# Altium footprint library usomiq-base.PcbLib: 31 footprints (part 2 of 2)
Each footprint in its own frame and in the unit in brackets; x right, y up, seen from the top. Pads: shape width x height; smd on the part's side, far side on the other; paste and mask are expansions set on the pad; w line width, h text height; cw(c..) or ccw(c..) is an arc to the next point about the centre after c.
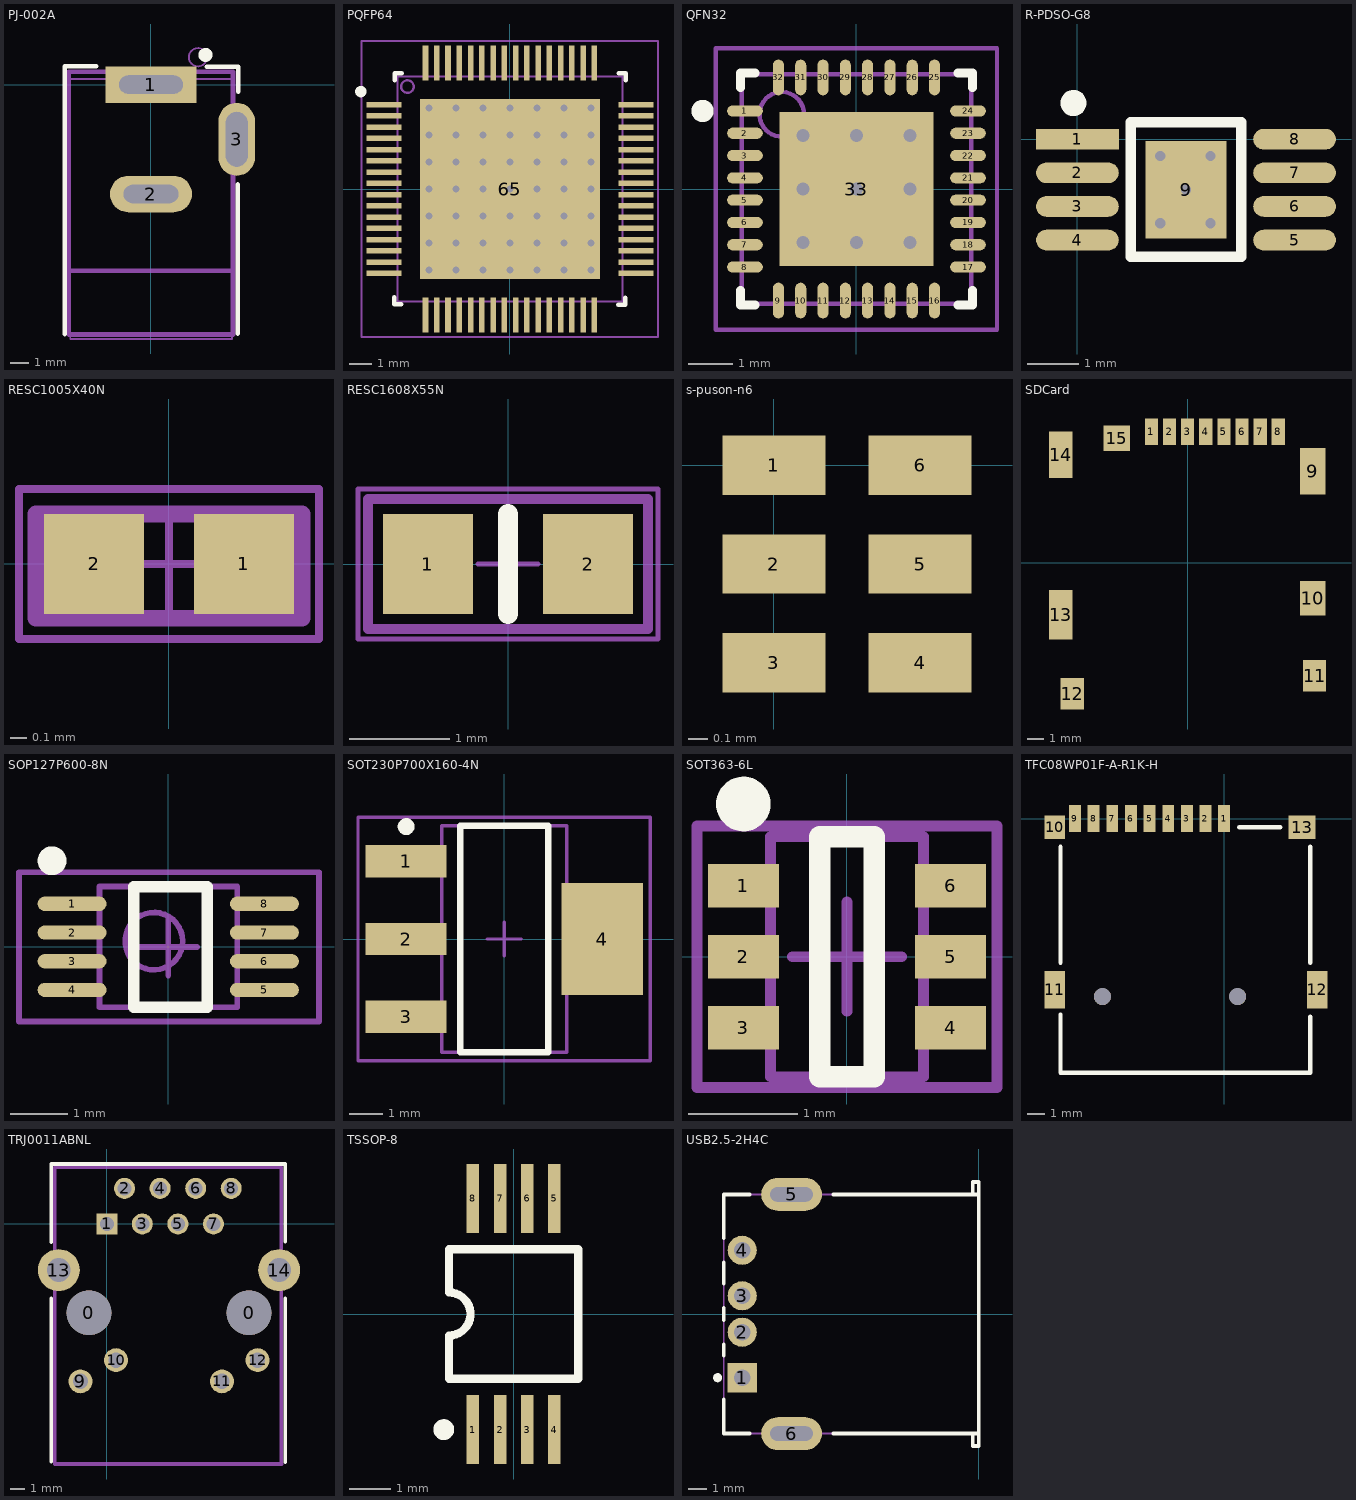
[diagram p1: the footprints below, top view; thin cyan lines are the x and y axes]

## PJ-002A [mm] "DC POWER JACK"
height 11
pads (3):
  rect 5x2 hole 1 slot 3.5 at 0 deg: 1(0,0)
  oval 4.5x2 hole 1 slot 3 at 0 deg: 2(0,-6)
  oval 2x4 hole 1.2 slot 3 at 90 deg: 3(4.7,-3)
Top Overlay:
  circle w0.4: c2.985,1.625 r0.185
  lines w0.254: -4.725,-13.675 -4.725,1 -3,1 ; 3.05,0.975 4.775,0.975 4.775,-0.4 ; 4.75,-13.645 4.75,-5.475
Mechanical 13:
  circle w0.1: c2.575,1.5 r0.5
  lines w0.1: -4.425,-13.95 -4.425,0.3 4.45,0.3 4.45,-13.95 -4.425,-13.95
Mechanical 15:
  lines w0.254: -4.5,-10.2 4.5,-10.2 ; -4.5,-13.7 4.5,-13.7 4.5,0.7 -4.5,0.7 -4.5,-13.7
3D body: height 11, standoff -3.78, extent -4.373,-13.589 4.927,0.411

## PQFP64 [mm] "64-Pin Quad Flat Pad 0.5 mm Pitch, IPC Low Density"
height 1
pads (65):
  rect 1.55x0.25 smd: 1(-5.6,3.75) 2(-5.6,3.25) 3(-5.6,2.75) 4(-5.6,2.25) 5(-5.6,1.75) 6(-5.6,1.25) 7(-5.6,0.75) 8(-5.6,0.25) 9(-5.6,-0.25) 10(-5.6,-0.75) 11(-5.6,-1.25) 12(-5.6,-1.75) 13(-5.6,-2.25) 14(-5.6,-2.75) 15(-5.6,-3.25) 16(-5.6,-3.75) 33(5.6,-3.75) 34(5.6,-3.25) 35(5.6,-2.75) 36(5.6,-2.25) 37(5.6,-1.75) 38(5.6,-1.25) 39(5.6,-0.75) 40(5.6,-0.25) 41(5.6,0.25) 42(5.6,0.75) 43(5.6,1.25) 44(5.6,1.75) 45(5.6,2.25) 46(5.6,2.75) 47(5.6,3.25) 48(5.6,3.75)
  rect 0.25x1.55 smd: 17(-3.75,-5.6) 18(-3.25,-5.6) 19(-2.75,-5.6) 20(-2.25,-5.6) 21(-1.75,-5.6) 22(-1.25,-5.6) 23(-0.75,-5.6) 24(-0.25,-5.6) 25(0.25,-5.6) 26(0.75,-5.6) 27(1.25,-5.6) 28(1.75,-5.6) 29(2.25,-5.6) 30(2.75,-5.6) 31(3.25,-5.6) 32(3.75,-5.6) 49(3.75,5.6) 50(3.25,5.6) 51(2.75,5.6) 52(2.25,5.6) 53(1.75,5.6) 54(1.25,5.6) 55(0.75,5.6) 56(0.25,5.6) 57(-0.25,5.6) 58(-0.75,5.6) 59(-1.25,5.6) 60(-1.75,5.6) 61(-2.25,5.6) 62(-2.75,5.6) 63(-3.25,5.6) 64(-3.75,5.6)
  rect 8x8 smd: 65(0,0)
via -3.6,-2.4 diameter 0.8 hole 0.3
via -3.6,-1.2 diameter 0.8 hole 0.3
via -3.6,0 diameter 0.8 hole 0.3
via -3.6,1.2 diameter 0.8 hole 0.3
via -3.6,2.4 diameter 0.8 hole 0.3
via -3.6,3.6 diameter 0.8 hole 0.3
via -3.6,-3.6 diameter 0.8 hole 0.3
via 3.6,-2.4 diameter 0.8 hole 0.3
via 3.6,-1.2 diameter 0.8 hole 0.3
via 3.6,0 diameter 0.8 hole 0.3
via 3.6,1.2 diameter 0.8 hole 0.3
via 3.6,2.4 diameter 0.8 hole 0.3
via 3.6,3.6 diameter 0.8 hole 0.3
via 3.6,-3.6 diameter 0.8 hole 0.3
via 2.4,-3.6 diameter 0.8 hole 0.3
via 1.2,-3.6 diameter 0.8 hole 0.3
via 0,-3.6 diameter 0.8 hole 0.3
via -1.2,-3.6 diameter 0.8 hole 0.3
via -2.4,-3.6 diameter 0.8 hole 0.3
via 2.4,3.6 diameter 0.8 hole 0.3
via 1.2,3.6 diameter 0.8 hole 0.3
via 0,3.6 diameter 0.8 hole 0.3
via -1.2,3.6 diameter 0.8 hole 0.3
via -2.4,3.6 diameter 0.8 hole 0.3
via -2.4,2.4 diameter 0.8 hole 0.3
via -1.2,2.4 diameter 0.8 hole 0.3
via 0,2.4 diameter 0.8 hole 0.3
via 1.2,2.4 diameter 0.8 hole 0.3
via 2.4,2.4 diameter 0.8 hole 0.3
via -2.4,1.2 diameter 0.8 hole 0.3
via -1.2,1.2 diameter 0.8 hole 0.3
via 0,1.2 diameter 0.8 hole 0.3
via 1.2,1.2 diameter 0.8 hole 0.3
via 2.4,1.2 diameter 0.8 hole 0.3
via -2.4,0 diameter 0.8 hole 0.3
via -1.2,0 diameter 0.8 hole 0.3
via 0,0 diameter 0.8 hole 0.3
via 1.2,0 diameter 0.8 hole 0.3
via 2.4,0 diameter 0.8 hole 0.3
via -2.4,-1.2 diameter 0.8 hole 0.3
via -1.2,-1.2 diameter 0.8 hole 0.3
via 0,-1.2 diameter 0.8 hole 0.3
via 1.2,-1.2 diameter 0.8 hole 0.3
via 2.4,-1.2 diameter 0.8 hole 0.3
via -2.4,-2.4 diameter 0.8 hole 0.3
via -1.2,-2.4 diameter 0.8 hole 0.3
via 0,-2.4 diameter 0.8 hole 0.3
via 1.2,-2.4 diameter 0.8 hole 0.3
via 2.4,-2.4 diameter 0.8 hole 0.3
Top Overlay:
  circle w0.25: c-6.625,4.325 r0.125
  lines w0.2: -5.15,-4.8 -5.15,-5.125 -4.825,-5.125 ; -5.125,4.825 -5.125,5.15 -4.8,5.15 ; 4.8,-5.15 5.125,-5.15 5.125,-4.825 ; 4.825,5.15 5.15,5.15 5.15,4.825
Bottom Solder:
  circle w0.6: c3.6,-3.6 r0.15
  circle w0.6: c3.6,-2.4 r0.15
  circle w0.6: c3.6,-1.2 r0.15
  circle w0.6: c3.6,0 r0.15
  circle w0.6: c3.6,1.2 r0.15
  circle w0.6: c3.6,2.4 r0.15
  circle w0.6: c3.6,3.6 r0.15
  circle w0.6: c2.4,2.4 r0.15
  circle w0.6: c2.4,3.6 r0.15
  circle w0.6: c2.4,1.2 r0.15
  circle w0.6: c2.4,0 r0.15
  circle w0.6: c2.4,-1.2 r0.15
  circle w0.6: c2.4,-2.4 r0.15
  circle w0.6: c2.4,-3.6 r0.15
  circle w0.6: c1.2,-3.6 r0.15
  circle w0.6: c1.2,-2.4 r0.15
  circle w0.6: c1.2,-1.2 r0.15
  circle w0.6: c1.2,0 r0.15
  circle w0.6: c1.2,1.2 r0.15
  circle w0.6: c1.2,2.4 r0.15
  circle w0.6: c1.2,3.6 r0.15
  circle w0.6: c0,3.6 r0.15
  circle w0.6: c0,2.4 r0.15
  circle w0.6: c0,1.2 r0.15
  circle w0.6: c0,0 r0.15
  circle w0.6: c0,-1.2 r0.15
  circle w0.6: c0,-2.4 r0.15
  circle w0.6: c0,-3.6 r0.15
  circle w0.6: c-1.2,-3.6 r0.15
  circle w0.6: c-1.2,-2.4 r0.15
  circle w0.6: c-1.2,-1.2 r0.15
  circle w0.6: c-1.2,0 r0.15
  circle w0.6: c-1.2,1.2 r0.15
  circle w0.6: c-1.2,2.4 r0.15
  circle w0.6: c-1.2,3.6 r0.15
  circle w0.6: c-2.4,3.6 r0.15
  circle w0.6: c-2.4,2.4 r0.15
  circle w0.6: c-2.4,1.2 r0.15
  circle w0.6: c-2.4,0 r0.15
  circle w0.6: c-2.4,-1.2 r0.15
  circle w0.6: c-2.4,-2.4 r0.15
  circle w0.6: c-2.4,-3.6 r0.15
  circle w0.6: c-3.6,-3.6 r0.15
  circle w0.6: c-3.6,-2.4 r0.15
  circle w0.6: c-3.6,-1.2 r0.15
  circle w0.6: c-3.6,0 r0.15
  circle w0.6: c-3.6,1.2 r0.15
  circle w0.6: c-3.6,2.4 r0.15
  circle w0.6: c-3.6,3.6 r0.15
Mechanical 13:
  circle w0.1: c-4.555,4.55 r0.28
  lines w0.1: -5,-5 -5,5 5,5 5,-5 -5,-5
Mechanical 15:
  lines w0.1: -0.5,0 0.5,0 ; 0,-0.5 0,0.5 ; -6.6,-6.575 -6.6,6.575 6.575,6.575 6.575,-6.575 -6.6,-6.575
3D body: height 1, standoff 0, extent -5.787,-5.79 5.787,5.791

## QFN32 [mm] "32-Pin Quad Flat No-Lead 0.5 mm Pitch, IPC Medium Density"
height 1
pads (33):
  oval 0.8x0.25 smd: 1(-2.5,1.75) 2(-2.5,1.25) 3(-2.5,0.75) 4(-2.5,0.25) 5(-2.5,-0.25) 6(-2.5,-0.75) 7(-2.5,-1.25) 8(-2.5,-1.75) 17(2.5,-1.75) 18(2.5,-1.25) 19(2.5,-0.75) 20(2.5,-0.25) 21(2.5,0.25) 22(2.5,0.75) 23(2.5,1.25) 24(2.5,1.75)
  oval 0.25x0.8 smd: 9(-1.75,-2.5) 10(-1.25,-2.5) 11(-0.75,-2.5) 12(-0.25,-2.5) 13(0.25,-2.5) 14(0.75,-2.5) 15(1.25,-2.5) 16(1.75,-2.5) 25(1.75,2.5) 26(1.25,2.5) 27(0.75,2.5) 28(0.25,2.5) 29(-0.25,2.5) 30(-0.75,2.5) 31(-1.25,2.5) 32(-1.75,2.5)
  rect 3.45x3.45 smd: 33(0,0)
via 1.2,-1.2 diameter 0.6 hole 0.3
via 0,-1.2 diameter 0.6 hole 0.3
via -1.2,-1.2 diameter 0.6 hole 0.3
via 1.2,0 diameter 0.6 hole 0.3
via 0,0 diameter 0.6 hole 0.3
via -1.2,0 diameter 0.6 hole 0.3
via 1.2,1.2 diameter 0.6 hole 0.3
via 0,1.2 diameter 0.6 hole 0.3
via -1.2,1.2 diameter 0.6 hole 0.3
Top Overlay:
  circle w0.25: c-3.45,1.75 r0.125
  lines w0.2: -2.6,-2.275 -2.6,-2.6 -2.275,-2.6 ; -2.6,2.275 -2.6,2.6 -2.275,2.6 ; 2.275,-2.6 2.6,-2.6 2.6,-2.275 ; 2.275,2.6 2.6,2.6 2.6,2.275
Bottom Solder:
  circle w0.4: c1.2,-1.2 r0.15
  circle w0.4: c1.2,0 r0.15
  circle w0.4: c1.2,1.2 r0.15
  circle w0.4: c0,1.2 r0.15
  circle w0.4: c0,0 r0.15
  circle w0.4: c0,-1.2 r0.15
  circle w0.4: c-1.2,-1.2 r0.15
  circle w0.4: c-1.2,0 r0.15
  circle w0.4: c-1.2,1.2 r0.15
Mechanical 13:
  circle w0.1: c-1.675,1.675 r0.5
  lines w0.1: -2.575,-2.575 2.575,-2.575 2.575,2.575 -2.575,2.575 -2.575,-2.575
Mechanical 15:
  lines w0.1: -0.5,0 0.5,0 ; 0,-0.5 0,0.5 ; -3.15,-3.15 3.15,-3.15 3.15,3.15 -3.15,3.15 -3.15,-3.15
3D body: height 0.8, standoff 0, extent -2.51,-2.51 2.51,2.51

## R-PDSO-G8 [mm]
pads (9):
  rect 1.6x0.4 smd: 1(0,0)
  oval 1.6x0.4 smd: 2(0,-0.65) 3(0,-1.3) 4(0,-1.95) 5(4.2,-1.95) 6(4.2,-1.3) 7(4.2,-0.65) 8(4.2,0)
  rect 1.57x1.89 smd: 9(2.1,-0.975)
via 2.575,-1.625 diameter 0.4 hole 0.2
via 1.6,-1.625 diameter 0.4 hole 0.2
via 1.6,-0.325 diameter 0.4 hole 0.2
via 2.575,-0.325 diameter 0.4 hole 0.2
via 2.1,-0.975 diameter 0.4 hole 0.2
Top Overlay:
  circle w0.254: c-0.075,0.7 r0.125
  lines w0.2: 3.15,0.325 1.035,0.325 1.035,-2.275 3.165,-2.275 3.165,0.325
3D body: height 1.1, standoff 0.1, extent 0.45,-2.75 3.725,0.8

## RESC1005X40N [mm] "Chip Resistor, EIA 0402, Metric 1005, Body 1.0x0.5mm, IPC Medium Density"
height 0.4
pads (2):
  rect 0.6x0.6 smd: 1(0.45,0) 2(-0.45,0)
Mechanical 2:
  lines w0.05: -0.9,-0.45 -0.9,0.45 0.9,0.45 0.9,-0.45 -0.9,-0.45
  text ".designator" at -0.75,-0.25 h0.5
Mechanical 14:
  lines w0.1: -0.8,-0.325 -0.8,0.3 0.8,0.3 0.8,-0.325 -0.8,-0.325
Mechanical 15:
  lines w0.05: -0.3,0 0.3,0 ; 0,-0.3 0,0.3 ; -0.9,-0.45 -0.9,0.45 0.9,0.45 0.9,-0.45 -0.9,-0.45
3D body: height 0.4, standoff 0, extent -0.525,-0.275 0.525,0.275

## RESC1608X55N [mm] "Chip Resistor, EIA 0603, Metric 1608, Body 1.6x0.8mm, IPC Medium Density"
height 0.55
pads (2):
  rect 0.9x1 smd: 1(-0.8,0) 2(0.8,0)
Top Overlay:
  lines w0.2: 0,-0.5 0,0.5
Mechanical 2:
  lines w0.05: -1.5,-0.75 -1.5,0.75 1.5,0.75 1.5,-0.75 -1.5,-0.75
  text ".designator" at -1.225,-0.1 h0.5
Mechanical 14:
  lines w0.1: -1.4,-0.65 1.4,-0.65 1.4,0.65 -1.4,0.65 -1.4,-0.65
Mechanical 15:
  lines w0.05: -0.3,0 0.3,0 ; 0,-0.3 0,0.3 ; -1.5,-0.75 -1.5,0.75 1.5,0.75 1.5,-0.75 -1.5,-0.75
3D body: height 0.55, standoff 0, extent -0.875,-0.475 0.875,0.475

## s-puson-n6 [mm]
pads (6):
  rect 0.52x0.3 smd mask+0.05: 1(0,0) 2(0,-0.5) 3(0,-1) 4(0.74,-1) 5(0.74,-0.5) 6(0.74,0)
3D body: height 0.6, standoff 0, extent -0.254,-1.143 1.016,0.127

## SDCard [mm] "molex 0492250821"
pads (15):
  rect 0.8x1.6 smd: 1(-2.2,7.95) 2(-1.1,7.95) 3(0,7.95) 4(1.1,7.95) 5(2.2,7.95) 6(3.3,7.95) 7(4.4,7.95) 8(5.5,7.95)
  rect 1.55x2.8 smd: 9(7.6,5.55)
  rect 1.55x2.1 smd: 10(7.6,-2.15)
  rect 1.4x1.9 smd: 11(7.7,-6.85) 12(-7,-7.95)
  rect 1.4x3 smd: 13(-7.7,-3.15)
  rect 1.4x2.8 smd: 14(-7.7,6.55)
  rect 1.6x1.55 smd: 15(-4.3,7.55)
3D body: height 1.95, standoff -0.03, extent -8.05,-8.5 8.05,8.55

## SOP127P600-8N [mm]
height 0.9
pads (8):
  oval 1.2x0.25 smd mask+0.05: 1(-1.675,0.75) 2(-1.675,0.25) 3(-1.675,-0.25) 4(-1.675,-0.75) 5(1.675,-0.75) 6(1.675,-0.25) 7(1.675,0.25) 8(1.675,0.75)
Top Overlay:
  circle w0.25: c-2.025,1.5 r0.125
  lines w0.2: -0.6,-1.05 0.675,-1.05 0.675,1.05 -0.6,1.05 -0.6,-1.05
Mechanical 13:
  circle w0.1: c-0.25,0.1 r0.5
  lines w0.1: -1.2,-1.05 1.2,-1.05 1.2,1.05 -1.2,1.05 -1.2,-1.05
Mechanical 15:
  lines w0.1: -0.5,0 0.5,0 ; 0,-0.5 0,0.5 ; -2.6,-1.3 2.625,-1.3 2.625,1.3 -2.6,1.3 -2.6,-1.3
3D body: height 0.9, standoff 0.1, extent -1.2,-1.05 1.2,1.05
3D body: height 0.9, standoff 0, extent -1.554,-1 1.554,1

## SOT230P700X160-4N [mm] "SOT223, 4-Leads, Body 6,7x7,3mm (max), Pitch 2,30mm, IPC Medium Density"
height 1.6
pads (4):
  rect 2.4x0.95 smd: 1(-2.9,2.3) 2(-2.9,0) 3(-2.9,-2.3)
  rect 2.4x3.3 smd: 4(2.9,0)
Top Overlay:
  circle w0.25: c-2.9,3.325 r0.125
  lines w0.2: -1.3,-3.35 1.3,-3.35 1.3,3.35 -1.3,3.35 -1.3,-3.35
Mechanical 13:
  lines w0.1: -1.85,-3.35 1.85,-3.35 1.85,3.35 -1.85,3.35 -1.85,-3.35
Mechanical 15:
  lines w0.1: -0.5,0 0.5,0 ; 0,-0.5 0,0.5 ; -4.325,-3.6 4.325,-3.6 4.325,3.6 -4.325,3.6 -4.325,-3.6
3D body: height 1.6, standoff 0.02, extent -1.85,-3.35 1.85,3.35
3D body: height 1.7, standoff 0.02, extent -3.48,-3.25 3.48,3.25

## SOT363-6L [mm] "SOT363, 6-Leads, Body 2x1.3mm, Pitch 0.65mm, Lead Span 2.1mm, IPC High Density"
height 1
pads (6):
  rect 0.65x0.4 smd: 1(-0.95,0.65) 2(-0.95,0) 3(-0.95,-0.65) 4(0.95,-0.65) 5(0.95,0) 6(0.95,0.65)
Top Overlay:
  circle w0.25: c-0.95,1.4 r0.125
  lines w0.2: -0.25,-1.1 -0.25,1.1 0.25,1.1 0.25,-1.1 -0.25,-1.1
Mechanical 13:
  lines w0.1: -0.7,-1.1 0.7,-1.1 0.7,1.1 -0.7,1.1 -0.7,-1.1
Mechanical 15:
  lines w0.1: -0.5,0 0.5,0 ; 0,-0.5 0,0.5 ; -1.375,-1.2 1.375,-1.2 1.375,1.2 -1.375,1.2 -1.375,-1.2
3D body: height 1, standoff 0, extent -0.7,-1.1 0.7,1.1
3D body: height 1, standoff 0, extent -1.15,-1.05 1.15,1.05

## TFC08WP01F-A-R1K-H [mm]
pads (15):
  rect 0.7x1.6 smd paste+0 mask+0.064: 1(0,0) 2(-1.1,0) 3(-2.2,0) 4(-3.3,0) 5(-4.4,0) 6(-5.5,0) 7(-6.6,0) 8(-7.7,0) 9(-8.8,0)
  rect 1.2x1.4 smd paste+0 mask+0.064: 10(-10,-0.5)
  rect 1.2x2.2 smd paste+0 mask+0.064: 11(-10,-10.1) 12(5.5,-10.1)
  rect 1.6x1.4 smd paste+0 mask+0.064: 13(4.6,-0.5)
  round 1 hole 1 unplated: free(-7.18,-10.5) free(0.8,-10.5)
Top Overlay:
  lines w0.254: -9.652,-11.557 -9.652,-15 5.08,-15 5.08,-11.684 ; -9.652,-8.509 -9.652,-1.651 ; 0.889,-0.508 3.302,-0.508 ; 5.08,-8.509 5.08,-1.651
3D body: height 1.8, standoff 0, extent -9.652,-14.986 5.08,-0.508

## TRJ0011ABNL [mm] "TRJ0011ABNL RJ-45 magnet"
height 13.97
pads (16):
  round 3.2 hole 3.2 unplated: 0(-1.27,-6.35) 0(10.16,-6.35)
  rect 1.5x1.5 hole 1: 1(0,0)
  round 1.5 hole 1: 2(1.27,2.54) 3(2.54,0) 4(3.81,2.54) 5(5.08,0) 6(6.35,2.54) 7(7.62,0) 8(8.89,2.54)
  round 1.7 hole 1.1: 9(-1.88,-11.25) 10(0.66,-9.73) 11(8.23,-11.25) 12(10.77,-9.73)
  round 3 hole 1.7: 13(-3.43,-3.3) 14(12.32,-3.3)
Top Overlay:
  lines w0.254: -3.975,-17 -3.975,-5.3 ; -3.975,-1.3 -3.975,4.28 12.75,4.28 12.75,-1.275 ; 12.75,-17.025 12.75,-5.325
Mechanical 15:
  lines w0.254: -3.725,-17.125 -3.725,4.06 12.45,4.06 12.45,-17.075 ; -3.7,-17.15 12.495,-17.15
3D body: height 13.4, standoff 0, extent -3.7,-17.1 12.5,4.064

## TSSOP-8 [mm] "Shrink Small Outline; 8 Leads; Body Width 4.4 mm; Pitch 0.65 mm"
height 1.2
pads (8):
  rect 0.3x1.65 smd: 1(-0.975,-2.775) 2(-0.325,-2.775) 3(0.325,-2.775) 4(0.975,-2.775) 5(0.975,2.775) 6(0.325,2.775) 7(-0.325,2.775) 8(-0.975,2.775)
Top Overlay:
  circle w0.25: c-1.675,-2.775 r0.125
  lines w0.2: -1.55,-1.55 -1.55,-0.517 ccw(c-1.55,0) -1.55,0.517 -1.55,1.55 1.55,1.55 1.55,-1.55 -1.55,-1.55
3D body: height 1, standoff 0.1, extent -1.55,-1.6 1.525,1.55
3D body: height 1.2, standoff 0, extent -1.55,-3.225 1.55,3.275

## USB2.5-2H4C [mm] "Connector; USB1.1, Type A, Thru-Hole; 4 Position; Right Angle"
height 7.01
pads (6):
  rect 1.6x1.6 hole 0.92: 1(-12.99,-3.5)
  round 1.6 hole 0.92: 2(-12.99,-1) 3(-12.99,1) 4(-12.99,3.5)
  oval 3.34x1.8 hole 0.8 slot 2.34 at 0 deg: 5(-10.28,6.57) 6(-10.28,-6.57)
Top Overlay:
  circle w0.25: c-14.34,-3.5 r0.125
  lines w0.2: -14,-4.7 -14,-6.565 -12.58,-6.565 ; -14,-2.3 -14,-1.66 ; -14,-0.34 -14,0.34 ; -14,1.66 -14,2.84 ; -14,4.16 -14,6.565 -12.58,6.565 ; -7.98,-6.565 0,-6.565 ; -7.98,6.565 0,6.565 ; -0.32,-6.565 -0.32,-7.25 0,-7.25 0,-6.565 ; -0.32,6.565 -0.32,7.25 0,7.25 0,6.565 ; 0,-6.565 0,6.565
Mechanical 13:
  lines w0.1: -14,-6.565 -0.32,-6.565 -0.32,-7.25 0,-7.25 0,7.25 -0.32,7.25 -0.32,6.565 -14,6.565 -14,-6.565
3D body: height 7.55, standoff -3.37, extent -13.973,-7.9 0.127,7.9
3D body: height 7.01, standoff 0, extent -13.999,-7.249 -0.001,7.249